# Altium footprint library Other.PcbLib: 2 footprints
Each footprint in its own frame and in the unit in brackets; x right, y up, seen from the top. Pads: shape width x height; smd on the part's side, far side on the other; paste and mask are expansions set on the pad; w line width, h text height; cw(c..) or ccw(c..) is an arc to the next point about the centre after c.
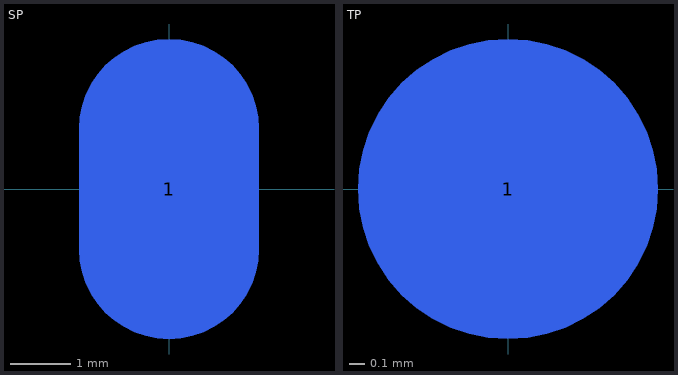
[diagram p0: the footprints below, top view; thin cyan lines are the x and y axes]

## SP [mm]
pads (1):
  oval 3x5 smd far side paste+0 mask+0.051: 1(0,0)

## TP [mm]
pads (1):
  round 2 smd far side paste+0 mask+0.051: 1(0,0)